# EAGLE library part LAN95XX-BOARD-MINIMAL (library lan95xxboard)
LAN95XX Adapter Board (minimal footprint) Please take care to bridge together on the adapter: 15VDD18CORE with 38VDD18CORE 48VDD18ETHPLL with 62VDD18USBPLL all four (4) GND pins visit https://github.com/dumpsite/LAN95XX-board
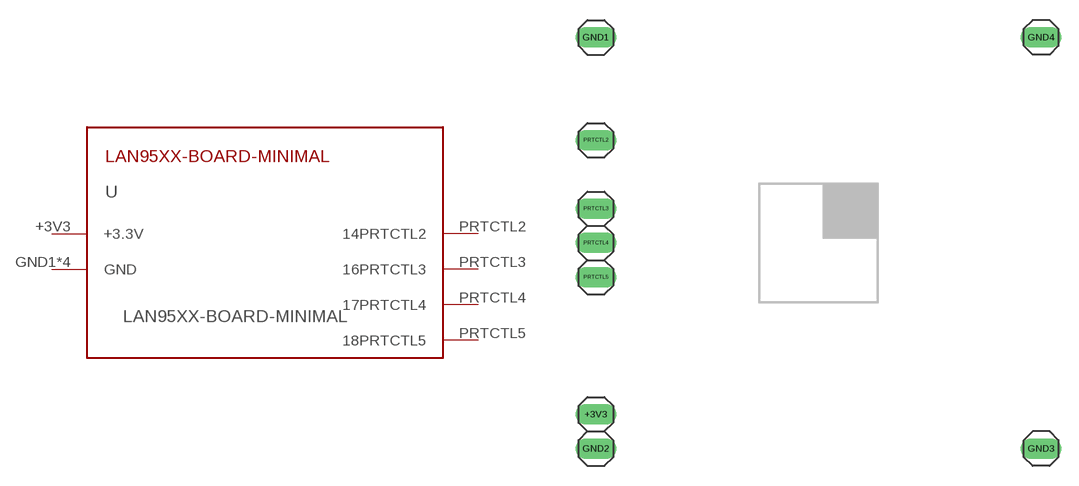
[diagram p1: symbol with the pads of LAN95XX-BOARD_MINIMAL; footprint LAN95XX-BOARD_MINIMAL]

Designator prefix -

## LAN95XX-BOARD-MINIMAL  [LAN95XX-BOARD_MINIMAL]
+3V3  +3.3V  pwr
GND1  GND  pwr
GND2  GND  pwr
GND3  GND  pwr
GND4  GND  pwr
PRTCTL2  14PRTCTL2
PRTCTL3  16PRTCTL3
PRTCTL4  17PRTCTL4  pas
PRTCTL5  18PRTCTL5  in

## Footprint LAN95XX-BOARD_MINIMAL (pad centres in mm)
drill 1.016 long: +3V3 -16.5,-12.7; GND1 -16.5,15.24; GND2 -16.5,-15.24; GND3 16.5,-15.24; GND4 16.5,15.24; PRTCTL2 -16.5,7.62; PRTCTL3 -16.5,2.54; PRTCTL4 -16.5,0; PRTCTL5 -16.5,-2.54